# Altium footprint library SON95P500X400X100-9N.PcbLib: 1 footprints
Each footprint in its own frame and in the unit in brackets; x right, y up, seen from the top. Pads: shape width x height; smd on the part's side, far side on the other; paste and mask are expansions set on the pad; w line width, h text height; cw(c..) or ccw(c..) is an arc to the next point about the centre after c.
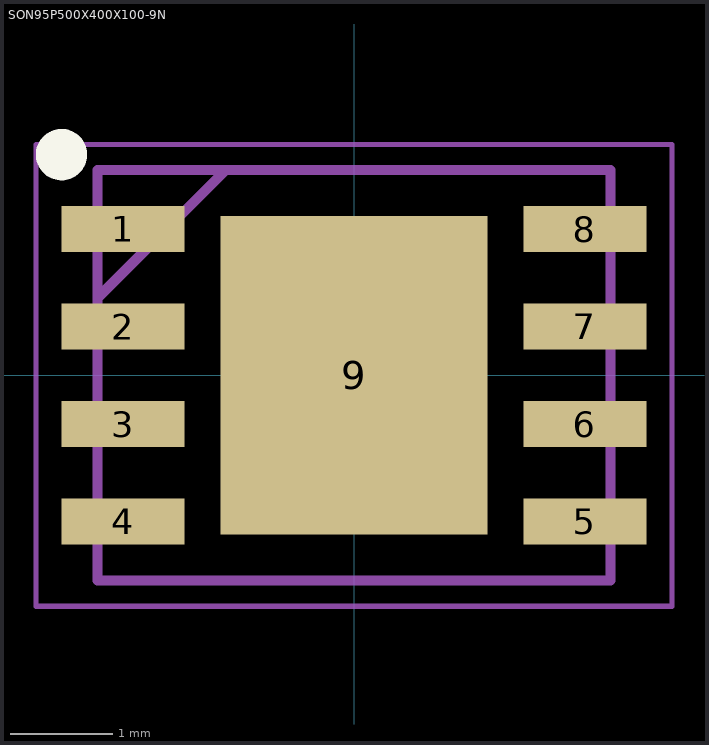
[diagram p0: the footprint, top view; thin cyan lines are the x and y axes]

## SON95P500X400X100-9N [mm]
pads (9):
  rect 1.2x0.45 smd: 1(-2.25,1.425) 2(-2.25,0.475) 3(-2.25,-0.475) 4(-2.25,-1.425) 5(2.25,-1.425) 6(2.25,-0.475) 7(2.25,0.475) 8(2.25,1.425)
  rect 2.6x3.1 smd: 9(0,0)
Top Overlay:
  circle w0.25: c-2.85,2.15 r0.125
Mechanical 15:
  lines w0.1: -2.5,0.75 -1.25,2 ; -2.5,-2 2.5,-2 2.5,2 -2.5,2 -2.5,-2
Mechanical 20:
  lines w0.05: -3.1,-2.25 3.1,-2.25 3.1,2.25 -3.1,2.25 -3.1,-2.25
3D body "IXDD609D2TR.stp": height 1, standoff 0, extent -2.55,-2 2.55,2